# Altium schematic symbol library UVY1E102MPD1TD.SchLib: 1 symbol
Pins are listed as number, name and electrical type; pins without a type are passive.

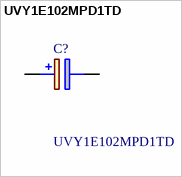
[diagram p0: symbol UVY1E102MPD1TD]

## UVY1E102MPD1TD
designator C?
Cap Aluminum Lytic 1000uF 25V 20% (10 X 16mm) Radial 5mm 610mA 1000h 105C Ammo; Manufacturer_Name: Nichicon; Geometry.Height: 17.5mm; Mouser Part Number: 647-UVY1E102MPD1TD; Mouser Price/Stock: https://www.mouser.co.uk/ProductDetail/Nichicon/UVY1E102MPD1TD?qs=gtReTMvImqniEnVqgrfK9Q%3D%3D; Manufacturer_Part_Number: UVY1E102MPD1TD; Datasheet Link: https://componentsearchengine.com/Datasheets/5/UVY1E102MPD1TD.pdf
footprint CAPPRD500W60D1025H1750
pins: 1 +, 2 -